# Altium schematic symbol library CON 7X2_Ribbon.SchLib: 1 symbol
Pins are listed as number, name and electrical type; pins without a type are passive.

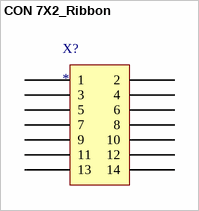
[diagram p0: symbol CON 7X2_Ribbon]

## CON 7X2_Ribbon
designator X?
14 Pin Ribbon Connector
footprint CON 7X2_Ribbon (Ribbon Connector)
pins: 1, 2, 3, 4, 5, 6, 7, 8, 9, 10, 11, 12, 13, 14